# Altium schematic symbol library DigitalUnits.SchLib: 34 symbols
Pins are listed as number, name and electrical type; pins without a type are passive.

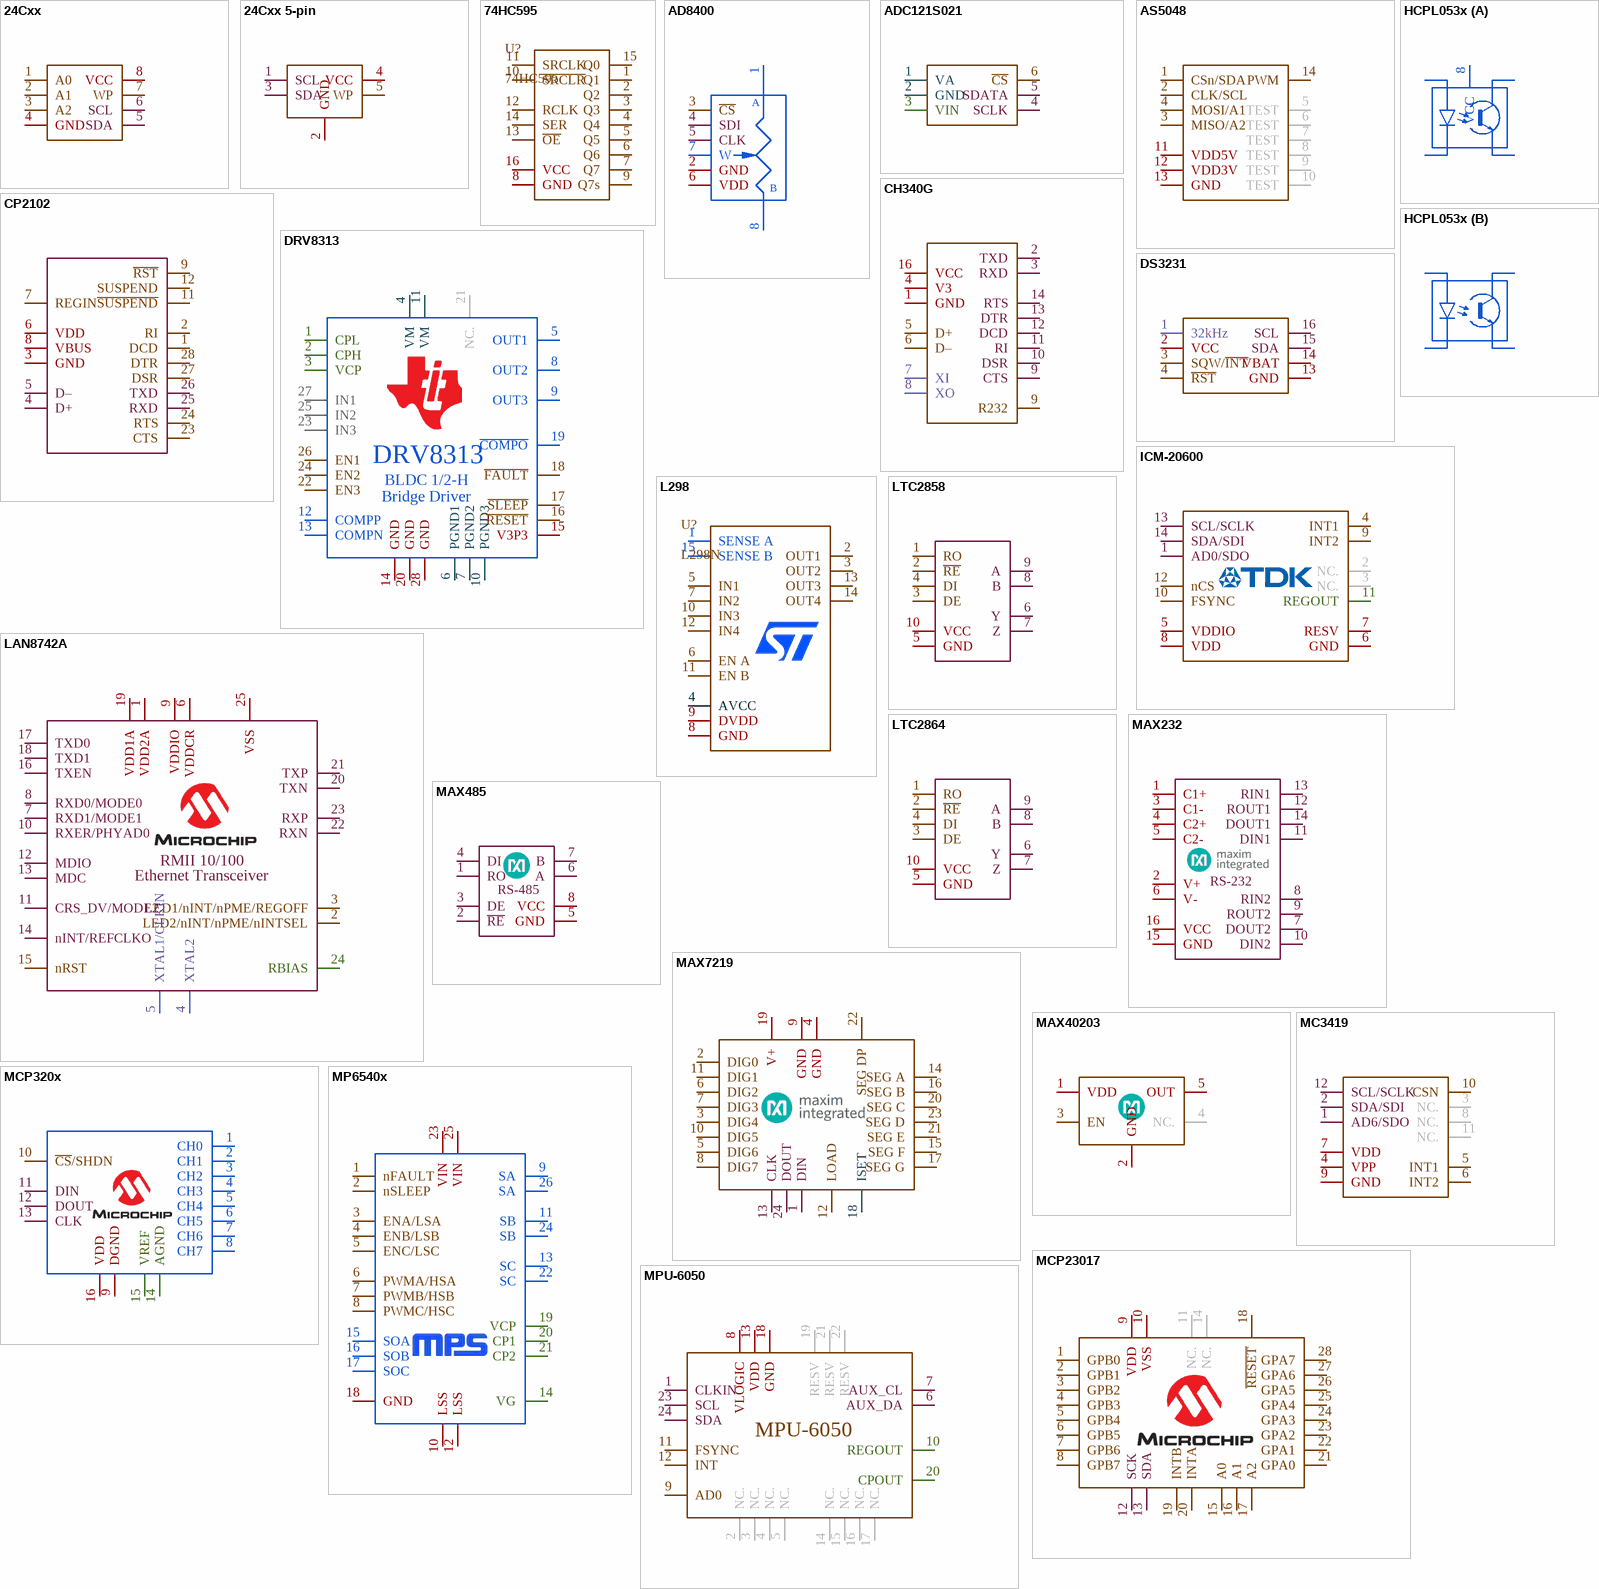
[diagram p0: symbols 24Cxx to MPU-6050]

## 24Cxx
designator U?, comment 24C16
Two-Wire I2C Serial EEPROM; Part Number: 24C16
footprint DIP8
footprint SOIC8 (Small Outline Integrated Circuit)
footprint UDFN8
pins: 1 A0, 2 A1, 3 A2, 4 GND, 5 SDA, 6 SCL, 7 WP, 8 VCC

## 24Cxx 5-pin
designator U?, comment AT24C02M5
Two-Wire I2C Serial EEPROM; Part Number: AT24C02M5
footprint SOT-23-5 (SOT-753)
pins: 1 SCL, 2 GND, 3 SDA, 4 VCC, 5 WP

## 74HC595
designator U?
8-bit Shift register; Part Number: 74HC595
footprint DIP8
footprint SOIC8 (Small Outline Integrated Circuit)
footprint UDFN8
pins: 1 Q1, 2 Q2, 3 Q3, 4 Q4, 5 Q5, 6 Q6, 7 Q7, 8 GND, 9 Q7s, 10 ~{SRCLR}, 11 SRCLK, 12 RCLK, 13 ~{OE}, 14 SER, 15 Q0, 16 VCC

## AD8400
designator U?
Digital SPI Resistor; Part Number: AD8400
footprint SOIC8
pins: 1, 2 GND, 3 ~{CS}, 4 SDI, 5 CLK, 6 VDD, 7 W, 8
text: A; B

## ADC121S021
designator U?
Single-Channel, 50- to 200-ksps, 12-Bit A/D Converter; Part Number: ADC121S021
footprint SOT-23-6
pins: 1 VA, 2 GND, 3 VIN, 4 SCLK, 5 SDATA, 6 ~{CS}

## AS5048
designator U?, comment AS5048B
Magnetic Rotary Encoder; Part Number: AS5048B
footprint TSSOP14
pins: 1 CSn/SDA, 2 CLK/SCL, 3 MISO/A2, 4 MOSI/A1, 5 TEST, 6 TEST, 7 TEST, 8 TEST, 9 TEST, 10 TEST, 11 VDD5V, 12 VDD3V, 13 GND, 14 PWM

## CH340G
designator U?
WCH CH340 Series USB Interface Integrated Circuit; Part Number: CH340G
footprint SOP16
footprint SOIC16
pins: 1 GND, 2 TXD, 3 RXD, 4 V3, 5 D+, 6 D–, 7 XI, 8 XO, 9 CTS, 9 R232, 10 DSR, 11 RI, 12 DCD, 13 DTR, 14 RTS, 16 VCC

## CP2102
designator U?
Single-Chip USB to UART Data Transfer; Part Number: CP2102
footprint VQFN28-TP (MLP28)
pins: 1 DCD, 2 RI, 3 GND, 4 D+, 5 D–, 6 VDD, 7 REGIN, 8 VBUS, 9 ~{RST}, 11 ~{SUSPEND}, 12 SUSPEND, 23 CTS, 24 RTS, 25 RXD, 26 TXD, 27 DSR, 28 DTR

## DRV8313
designator U?
2.5-A Triple 1/2-H Bridge Driver; Part Number: DRV8313
footprint TSSOP28
footprint TSSOP28-TP
pins: 1 CPL, 2 CPH, 3 VCP, 4 VM, 5 OUT1, 6 PGND1, 7 PGND2, 8 OUT2, 9 OUT3, 10 PGND3, 11 VM, 12 COMPP, 13 COMPN, 14 GND, 15 V3P3, 16 ~{RESET}, 17 ~{SLEEP}, 18 ~{FAULT}, 19 ~{COMPO}, 20 GND, 21 NC., 22 EN3, 23 IN3, 24 EN2, 25 IN2, 26 EN1, 27 IN1, 28 GND
text: BLDC 1/2-H; Bridge Driver

## DS3231
designator U?
High Precision Real Time I2C Clock; Part Number: DS3231
footprint SOP16
pins: 1 32kHz, 2 VCC, 3 SQW/~{INT}, 4 ~{RST}, 13 GND, 14 VBAT, 15 SDA, 16 SCL

## HCPL053x
designator OP?, comment HCPL0530
Part Number: HCPL0530
footprint SOIC8
part A pins: 1, 2, 5, 7, 8 VCC
part B pins: 3, 4, 5, 6

## ICM-20600
designator U?
High Performance 6-Axis MEMS MotionTracking™ Device in / 2.5x3x0.91mm Package; Part Number: ICM-20600
footprint LGA14
pins: 1 AD0/SDO, 2 NC., 3 NC., 4 INT1, 5 VDDIO, 6 GND, 7 RESV, 8 VDD, 9 INT2, 10 FSYNC, 11 REGOUT, 12 nCS, 13 SCL/SCLK, 14 SDA/SDI

## L298
designator U?, comment L298N
Dual Full Bridge Driver; Part Number: L298N
footprint MULTIWATT15-H (Footprint not found)
footprint MULTIWATT15-V
pins: 1 SENSE A, 2 OUT1, 3 OUT2, 4 AVCC, 5 IN1, 6 EN A, 7 IN2, 8 GND, 9 DVDD, 10 IN3, 11 EN B, 12 IN4, 13 OUT3, 14 OUT4, 15 SENSE B

## LAN8742A
designator U?
RMII 10/100 Ethernet Transceiver; Part Number: LAN8742A
footprint SQFN24-TP; pin to pad 25>0
pins: 1 VDD2A, 2 LED2/nINT/nPME/nINTSEL, 3 LED1/nINT/nPME/REGOFF, 4 XTAL2, 5 XTAL1/CLKIN, 6 VDDCR, 7 RXD1/MODE1, 8 RXD0/MODE0, 9 VDDIO, 10 RXER/PHYAD0, 11 CRS_DV/MODE2, 12 MDIO, 13 MDC, 14 nINT/REFCLKO, 15 nRST, 16 TXEN, 17 TXD0, 18 TXD1, 19 VDD1A, 20 TXN, 21 TXP, 22 RXN, 23 RXP, 24 RBIAS, 25 VSS
text: RMII 10/100; Ethernet Transceiver

## LTC2858
designator U?, comment LTC2858IMS-1#TRPBF
20Mbps and Slew Rate Limited 15kV RS485/RS422 Transceiver; Part Number: LTC2858IMS-1#TRPBF
footprint MSOP10
pins: 1 RO, 2 ~{RE}, 3 DE, 4 DI, 5 GND, 6 Y, 7 Z, 8 B, 9 A, 10 VCC

## LTC2864
designator U?, comment LTC2864HDD-1#PBF
20Mbps and Slew Rate Limited 15kV RS485/RS422 Transceiver; Part Number: LTC2864HDD-1#PBF
footprint DFN10
pins: 1 RO, 2 ~{RE}, 3 DE, 4 DI, 5 GND, 6 Y, 7 Z, 8 B, 9 A, 10 VCC

## MAX232
designator U?, comment MAX3232
Driver RS-232; Part Number: MAX3232
footprint SOIC16
pins: 1 C1+, 2 V+, 3 C1-, 4 C2+, 5 C2-, 6 V-, 7 DOUT2, 8 RIN2, 9 ROUT2, 10 DIN2, 11 DIN1, 12 ROUT1, 13 RIN1, 14 DOUT1, 15 GND, 16 VCC
text: RS-232

## MAX485
designator U?
Driver RS-485; Part Number: MAX485
footprint SOIC8
footprint DIP8
pins: 1 RO, 2 ~{RE}, 3 DE, 4 DI, 5 GND, 6 A, 7 B, 8 VCC
text: RS-485

## MAX7219
designator U?
Serially Interfaced, 8-Digit LED Display Drivers; Part Number: MAX7219
footprint DIP24
pins: 1 DIN, 2 DIG0, 3 DIG4, 4 GND, 5 DIG6, 6 DIG2, 7 DIG3, 8 DIG7, 9 GND, 10 DIG5, 11 DIG1, 12 LOAD, 13 CLK, 14 SEG A, 15 SEG F, 16 SEG B, 17 SEG G, 18 ISET, 19 V+, 20 SEG C, 21 SEG E, 22 SEG DP, 23 SEG D, 24 DOUT

## MAX40203
designator U?, comment MAX40203AUK
Ultra-Tiny Nanopower, 1A Ideal Diodes with Ultra-Low-Voltage Drop; Part Number: MAX40203AUK
footprint SOT-23-5
pins: 1 VDD, 2 GND, 3 EN, 4 NC., 5 OUT

## MC3419
designator U?, comment MC3419-P
3-Axis Accelerometer; Part Number: MC3419-P
footprint LGA12
pins: 1 AD6/SDO, 2 SDA/SDI, 3 NC., 4 VPP, 5 INT1, 6 INT2, 7 VDD, 8 NC., 9 GND, 10 CSN, 11 NC., 12 SCL/SCLK

## MCP320x
designator U?, comment MCP3208
2.7V 4-Channel/8-Channel 12-Bit A/D Converters with SPI Serial Interface; Part Number: MCP3208
footprint DIP16
footprint SOIC16 (Small Outline Integrated Circuit)
pins: 1 CH0, 2 CH1, 3 CH2, 4 CH3, 5 CH4, 6 CH5, 7 CH6, 8 CH7, 9 DGND, 10 ~{CS}/SHDN, 11 DIN, 12 DOUT, 13 CLK, 14 AGND, 15 VREF, 16 VDD

## MCP23017
designator U?
16-Bit I2C I/O Expander with Serial Interface; Part Number: MCP23017
footprint SOIC28
footprint DIP28 (Footprint not found)
pins: 1 GPB0, 2 GPB1, 3 GPB2, 4 GPB3, 5 GPB4, 6 GPB5, 7 GPB6, 8 GPB7, 9 VDD, 10 VSS, 11 NC., 12 SCK, 13 SDA, 14 NC., 15 A0, 16 A1, 17 A2, 18 ~{RESET}, 19 INTB, 20 INTA, 21 GPA0, 22 GPA1, 23 GPA2, 24 GPA3, 25 GPA4, 26 GPA5, 27 GPA6, 28 GPA7

## MP6540x
designator U?, comment MP6540H
Part Number: MP6540H
footprint FCQFN26
pins: 1 nFAULT, 2 nSLEEP, 3 ENA/LSA, 4 ENB/LSB, 5 ENC/LSC, 6 PWMA/HSA, 7 PWMB/HSB, 8 PWMC/HSC, 9 SA, 10 LSS, 11 SB, 12 LSS, 13 SC, 14 VG, 15 SOA, 16 SOB, 17 SOC, 18 GND, 19 VCP, 20 CP1, 21 CP2, 22 SC, 23 VIN, 24 SB, 25 VIN, 26 SA

## MPU-6050
designator U?
Part Number: MPU-6050
footprint QFN24
pins: 1 CLKIN, 2 NC., 3 NC., 4 NC., 5 NC., 6 AUX_DA, 7 AUX_CL, 8 VLOGIC, 9 AD0, 10 REGOUT, 11 FSYNC, 12 INT, 13 VDD, 14 NC., 15 NC., 16 NC., 17 NC., 18 GND, 19 RESV, 20 CPOUT, 21 RESV, 22 RESV, 23 SCL, 24 SDA

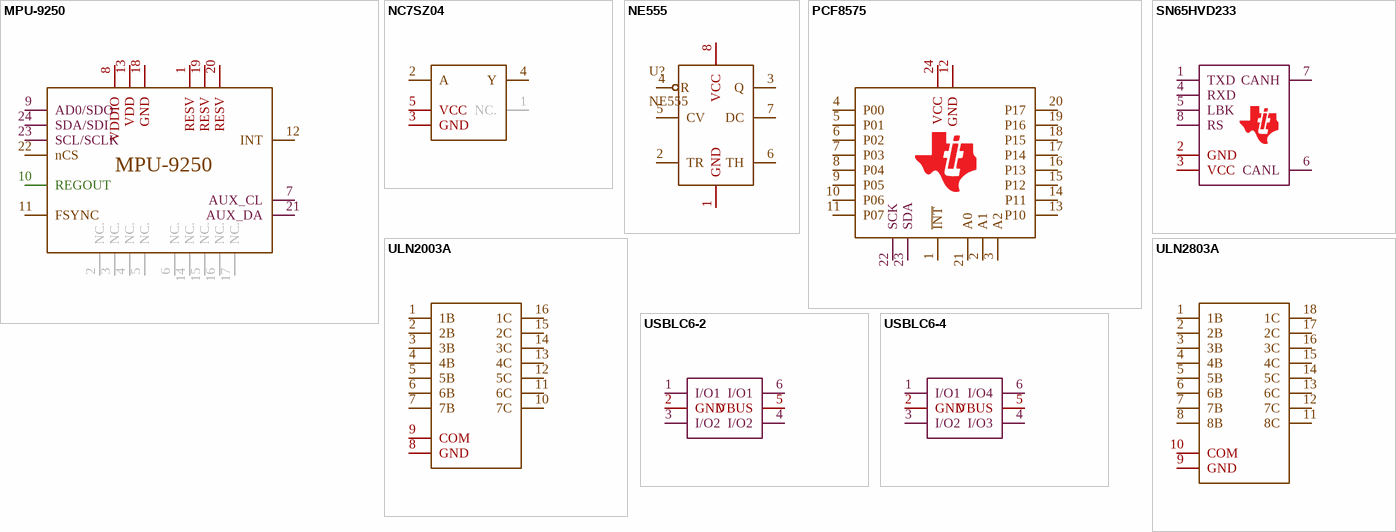
[diagram p1: symbols MPU-9250 to USBLC6-4]

## MPU-9250
designator U?
Part Number: MPU-9250
footprint QFN24
pins: 1 RESV, 2 NC., 3 NC., 4 NC., 5 NC., 6 NC., 7 AUX_CL, 8 VDDIO, 9 AD0/SDO, 10 REGOUT, 11 FSYNC, 12 INT, 13 VDD, 14 NC., 15 NC., 16 NC., 17 NC., 18 GND, 19 RESV, 20 RESV, 21 AUX_DA, 22 nCS, 23 SCL/SCLK, 24 SDA/SDI

## NC7SZ04
designator U?
Ultra−High Speed TinyLogic UHS Inverter; Part Number: NC7SZ04
footprint SOT-23-5
pins: 1 NC., 2 A, 3 GND, 4 Y, 5 VCC

## NE555
designator U?
Precision Timer; Part Number: NE555
footprint SOIC8
footprint DIP8
pins: 1 GND, 2 TR, 3 Q, 4 R, 5 CV, 6 TH, 7 DC, 8 VCC

## PCF8575
designator U?
16-Bit I2C I/O Expander; Part Number: PCF8575
footprint SOIC24
footprint TSSOP24
pins: 1 ~{INT}, 2 A1, 3 A2, 4 P00, 5 P01, 6 P02, 7 P03, 8 P04, 9 P05, 10 P06, 11 P07, 12 GND, 13 P10, 14 P11, 15 P12, 16 P13, 17 P14, 18 P15, 19 P16, 20 P17, 21 A0, 22 SCK, 23 SDA, 24 VCC

## SN65HVD233
designator U?, comment SN65HVD233-HT
3.3-V CAN Transceiver; Part Number: SN65HVD233-HT
footprint SOIC8
pins: 1 TXD, 2 GND, 3 VCC, 4 RXD, 5 LBK, 6 CANL, 7 CANH, 8 RS

## ULN2003A
designator U?
Darlington Transistor Arrays; Part Number: ULN2003A
footprint SOIC16
footprint DIP16
pins: 1 1B, 2 2B, 3 3B, 4 4B, 5 5B, 6 6B, 7 7B, 8 GND, 9 COM, 10 7C, 11 6C, 12 5C, 13 4C, 14 3C, 15 2C, 16 1C

## ULN2803A
designator U?
Darlington Transistor Arrays; Part Number: ULN2803A
footprint SOIC18
footprint DIP18
pins: 1 1B, 2 2B, 3 3B, 4 4B, 5 5B, 6 6B, 7 7B, 8 8B, 9 GND, 10 COM, 11 8C, 12 7C, 13 6C, 14 5C, 15 4C, 16 3C, 17 2C, 18 1C

## USBLC6-2
designator U?, comment USBLC6-2SC6
Very low capacitance ESD protection; Part Number: USBLC6-2SC6
footprint SOT-23-6
pins: 1 I/O1, 2 GND, 3 I/O2, 4 I/O2, 5 VBUS, 6 I/O1

## USBLC6-4
designator U?, comment USBLC6-4SC6
Very low capacitance ESD protection; Part Number: USBLC6-4SC6
footprint SOT-23-6
pins: 1 I/O1, 2 GND, 3 I/O2, 4 I/O3, 5 VBUS, 6 I/O4